# Altium schematic symbol library SCH - PASSIVES - POTENTIOMETER.Schlib: 1 symbol
Pins are listed as number, name and electrical type; pins without a type are passive.

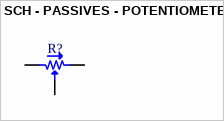
[diagram p0: symbol SCH - PASSIVES - POTENTIOMETER]

## SCH - PASSIVES - POTENTIOMETER
designator R?
footprint PTV09A-2 (Boruns Potentiometer)
pins: 1, 2, 3